# EAGLE library part 10P (library con-dg55)
DEGSON DG55 CONNECTOR
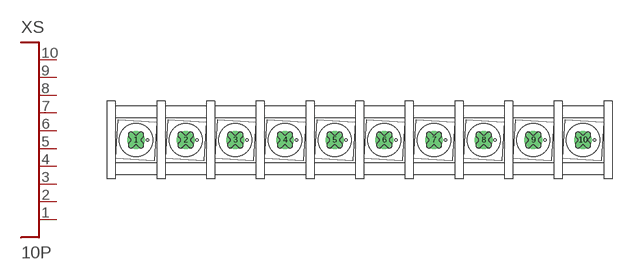
[diagram p4: symbol with the pads of DG55CB-10P-1; footprint DG55CB-10P-1]

Designator prefix XS

## 10P  [DG55CB-10P-1]
1  P$1
2  P$2
3  P$3
4  P$4
5  P$5
6  P$6
7  P$7
8  P$8
9  P$9
10  P$10

## Footprint DG55CB-10P-1 (pad centres in mm)
DG55
drill 1.8 pad 3.6: 1 -45,0; 2 -35,0; 3 -25,0; 4 -15,0; 5 -5,0; 6 5,0; 7 15,0; 8 25,0; 9 35,0; 10 45,0